# Altium footprint library MS5611.PcbLib: 1 footprints
Each footprint in its own frame and in the unit in brackets; x right, y up, seen from the top. Pads: shape width x height; smd on the part's side, far side on the other; paste and mask are expansions set on the pad; w line width, h text height; cw(c..) or ccw(c..) is an arc to the next point about the centre after c.
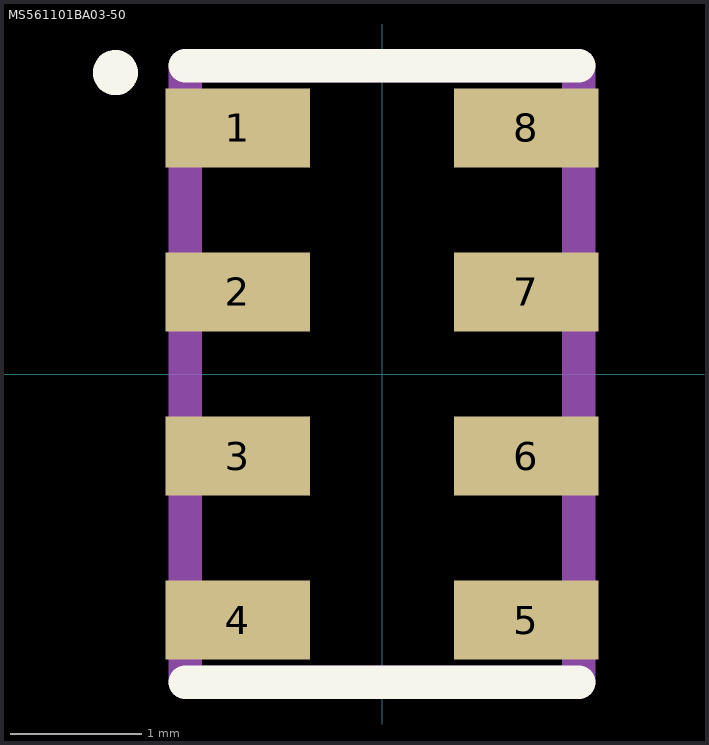
[diagram p0: the footprint, top view; thin cyan lines are the x and y axes]

## MS561101BA03-50 [mm]
pads (8):
  rect 1.1x0.6 smd: 1(-1.1,1.875) 2(-1.1,0.625) 3(-1.1,-0.625) 4(-1.1,-1.875) 5(1.1,-1.875) 6(1.1,-0.625) 7(1.1,0.625) 8(1.1,1.875)
Top Overlay:
  circle w0.254: c-2.032,2.297 r0.045
  lines w0.254: -1.5,-2.35 1.5,-2.35 ; -1.5,2.35 1.5,2.35
Mechanical 13:
  lines w0.254: -1.5,-2.35 -1.5,2.35 1.5,2.35 1.5,-2.35 -1.5,-2.35
3D body "MS561101BA03-50.stp": height 0.95, standoff 0, extent -1.5,-2.5 1.5,2.5